# EAGLE library part STD043F17X1 (library con-pinheader-standard)
female standard header 2mm, 4.3mm height
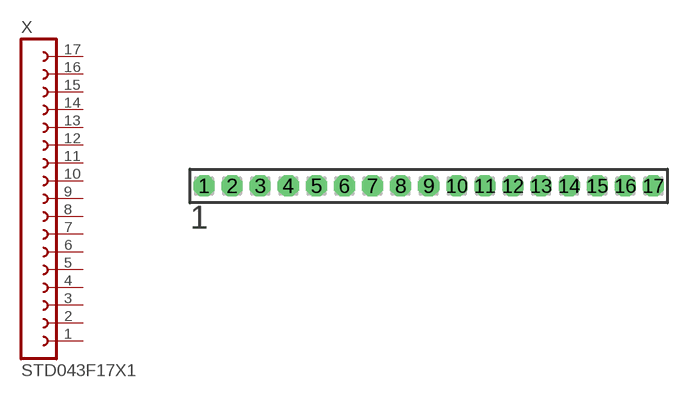
[diagram p11: symbol with the pads of STD043F17X1-2.00; footprint STD043F17X1-2.00]

Designator prefix X

## STD043F17X1-2.00MM (OC_FARNELL: unknown; OC_NEWARK: unknown)  [STD043F17X1-2.00]
1  1  pas
2  2  pas
3  3  pas
4  4  pas
5  5  pas
6  6  pas
7  7  pas
8  8  pas
9  9  pas
10  10  pas
11  11  pas
12  12  pas
13  13  pas
14  14  pas
15  15  pas
16  16  pas
17  17  pas

## Footprint STD043F17X1-2.00 (pad centres in mm)
female standard header 2mm, 4.3mm height
drill 0.8 pad 1.5 octagon: 1 -16,0; 2 -14,0; 3 -12,0; 4 -10,0; 5 -8,0; 6 -6,0; 7 -4,0; 8 -2,0; 9 0,0; 10 2,0; 11 4,0; 12 6,0; 13 8,0; 14 10,0; 15 12,0; 16 14,0; 17 16,0